# EAGLE library part CD4094BE (library eagle-library-engr-245-s22)
CMOS 8-STAGE SHIFT AND STORE BUS REGISTER
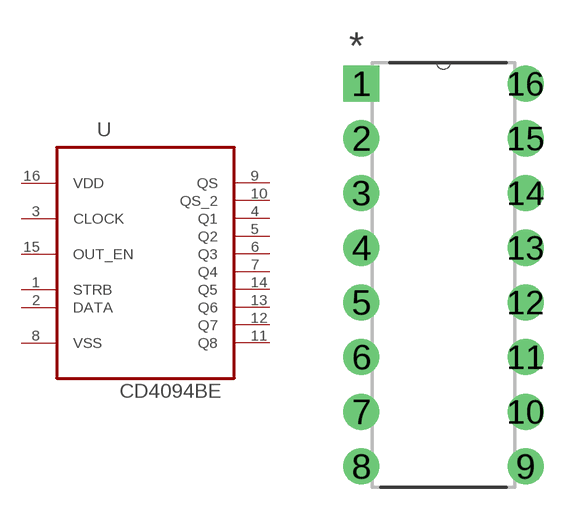
[diagram p7: symbol with the pads of DIP254P762X508-16; footprint DIP254P762X508-16]

Designator prefix U

## CD4094BE (AVAILABILITY: Good; DESCRIPTION: Shift Register/Latch Single 8-Bit Serial to Serial/Parallel 16-Pin PDIP Tube; MF: Texas Instruments; MP: CD4094BE; PACKAGE: PDIP-16 Texas Instruments; PRICE: 0.27 USD)  [DIP254P762X508-16]
1  STRB  in
2  DATA  in
3  CLOCK  in
4  Q1  out
5  Q2  out
6  Q3  out
7  Q4  out
8  VSS  pwr
9  QS  out
10  QS_2  out
11  Q8  out
12  Q7  out
13  Q6  out
14  Q5  out
15  OUT_EN  in
16  VDD  pwr

## Footprint DIP254P762X508-16 (pad centres in mm)
drill 1.118 square: 1 -7.62,17.78
drill 1.118: 2 -7.62,15.24; 3 -7.62,12.7; 4 -7.62,10.16; 5 -7.62,7.62; 6 -7.62,5.08; 7 -7.62,2.54; 8 -7.62,0; 9 0,0; 10 0,2.54; 11 0,5.08; 12 0,7.62; 13 0,10.16; 14 0,12.7; 15 0,15.24; 16 0,17.78